# Altium footprint library crystal_dip.PcbLib: 1 footprints
Each footprint in its own frame and in the unit in brackets; x right, y up, seen from the top. Pads: shape width x height; smd on the part's side, far side on the other; paste and mask are expansions set on the pad; w line width, h text height; cw(c..) or ccw(c..) is an arc to the next point about the centre after c.
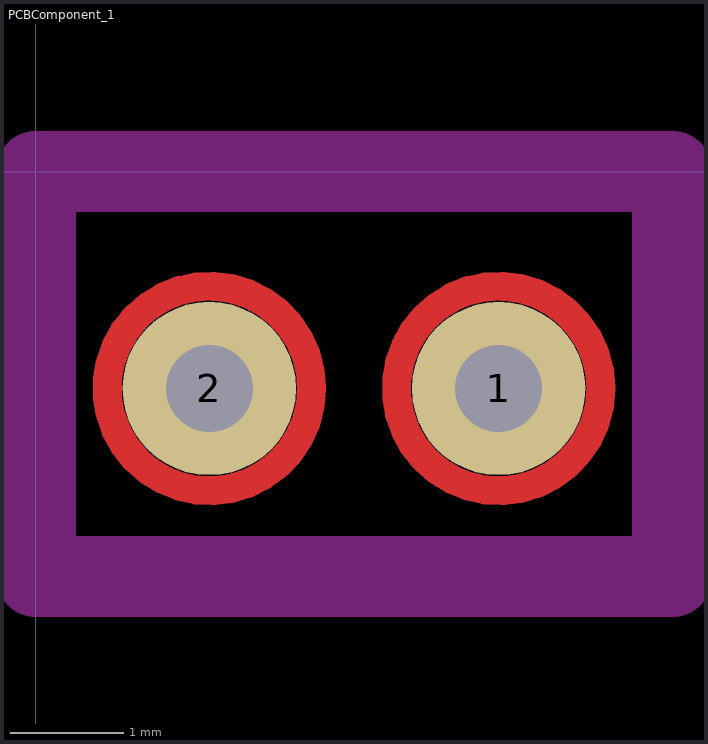
[diagram p0: the footprint, top view; thin cyan lines are the x and y axes]

## PCBComponent_1 [mil]
pads (2):
  round 60 hole 30: 1(160,-75) 2(60,-75)
Top Layer:
  circle w10: c60,-75 r35.36
  circle w10: c160,-75 r35.35
Keep-Out Layer:
  lines w27.95: 0,-140 220,-140 220,0 0,0 0,-140